# Altium schematic symbol library Resistors_Ceramic_SMD.SchLib: 2 symbols
Pins are listed as number, name and electrical type; pins without a type are passive.

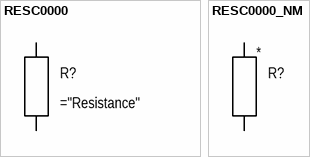
[diagram p0: symbols RESC0000 to RESC0000_NM]

## RESC0000
designator R?
pins: 1, 2

## RESC0000_NM
designator R?  (no BOM)
pins: 1, 2